# Altium schematic symbol library HOLE_M3.SchLib: 1 symbol
Pins are listed as number, name and electrical type; pins without a type are passive.

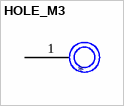
[diagram p0: symbol HOLE_M3]

## HOLE_M3
designator HOLE_M3
footprint HOLE M3
pins: 1